# Altium schematic symbol library microcircuit_Kalachev.SchLib: 7 symbols
Pins are listed as number, name and electrical type; pins without a type are passive.

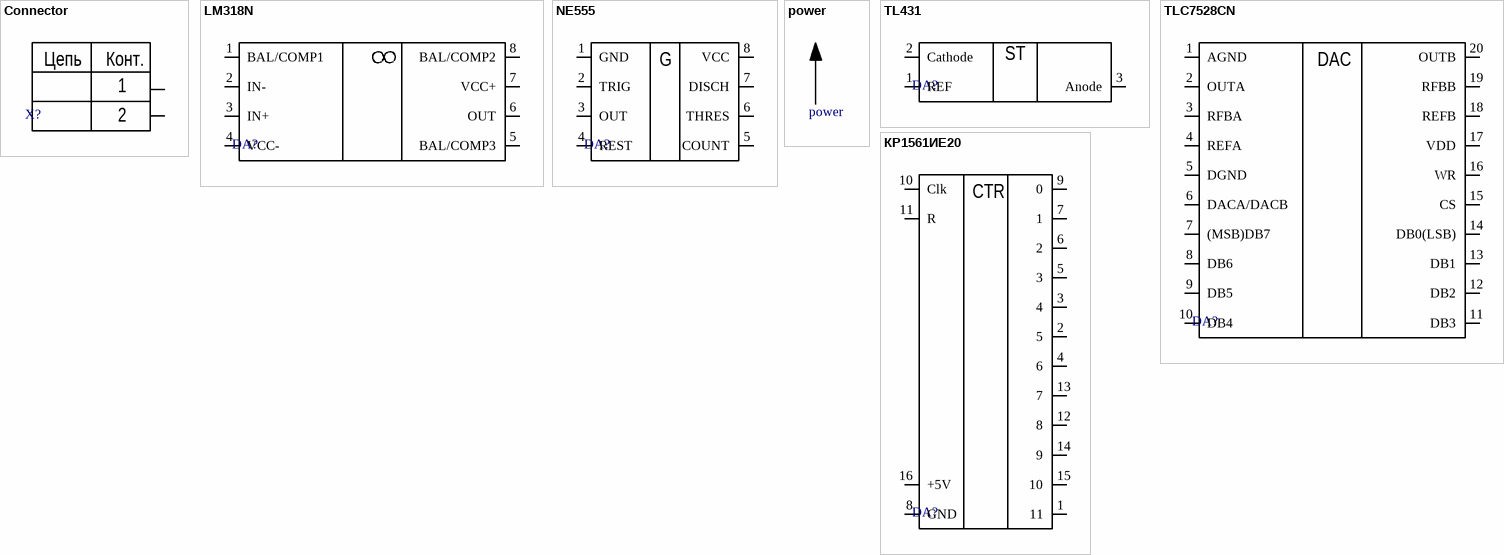
[diagram p0: symbols Connector to КР1561ИЕ20]

## Connector
designator X?  (value not drawn)
pins: 1, 8 Anode
text: Цепь; Конт.; 2

## LM318N
designator DA?  (value not drawn)
pins: 1 BAL/COMP1, 2 IN-, 3 IN+, 4 VCC-, 5 BAL/COMP3, 6 OUT, 7 VCC+, 8 BAL/COMP2

## NE555
designator DA?  (value not drawn)
pins: 1 GND, 2 TRIG, 3 OUT, 4 REST, 5 COUNT, 6 THRES, 7 DISCH, 8 VCC
text: G

## power
designator ?

## TL431
designator DA?  (value not drawn)
pins: 1 REF, 2 Cathode, 3 Anode
text: ST

## TLC7528CN
designator DA?  (value not drawn)
pins: 1 AGND, 2 OUTA, 3 RFBA, 4 REFA, 5 DGND, 6 DACA/DACB, 7 (MSB)DB7, 8 DB6, 9 DB5, 10 DB4, 11 DB3, 12 DB2, 13 DB1, 14 DB0(LSB), 15 CS, 16 WR, 17 VDD, 18 REFB, 19 RFBB, 20 OUTB
text: DAC

## КР1561ИЕ20
designator DA?  (value not drawn)
pins: 1 11, 2 5, 3 4, 4 6, 5 3, 6 2, 7 1, 8 GND, 9 0, 10 Clk, 11 R, 12 8, 13 7, 14 9, 15 10, 16 +5V
text: CTR